# EAGLE library part STM32F373CCT6 (library trafshlib)
Source: Datasheet <http://www.st.com/web/en/resource/technical/document/datasheet/DM00046749.pdf>
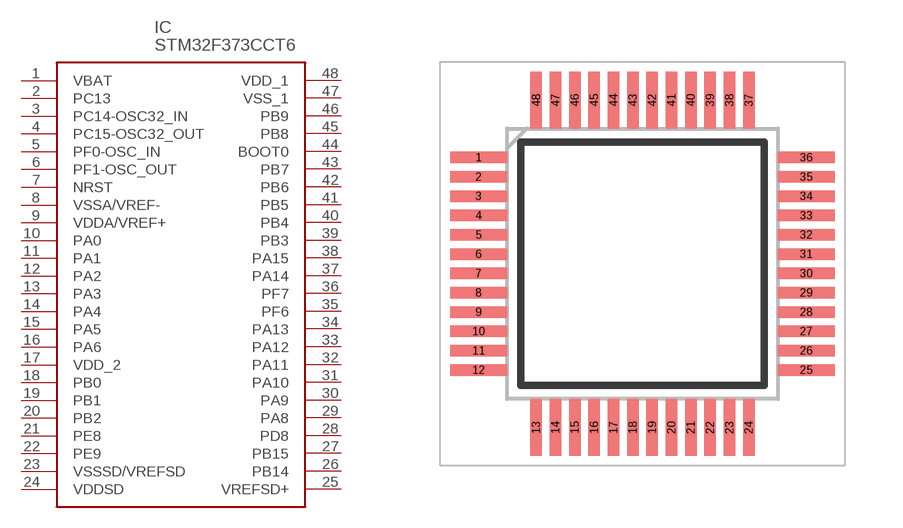
[diagram p12: symbol with the pads of QFP50P900X900X160-48N; footprint QFP50P900X900X160-48N]

Designator prefix IC

## STM32F373CCT6 (ALLIED_NUMBER: 70391084; ALLIED_PRICE-STOCK: http://www.alliedelec.com/stmicroelectronics-stm32f373cct6/70391084/; ARROW_PART_NUMBER: STM32F373CCT6; ARROW_PRICE-STOCK: https://www.arrow.com/en/products/stm32f373cct6/stmicroelectronics; HEIGHT: 1.6mm; MANUFACTURER_NAME: STMicroelectronics; MANUFACTURER_PART_NUMBER: STM32F373CCT6; RS_PART_NUMBER: 9206446; RS_PRICE-STOCK: http://uk.rs-online.com/web/p/products/9206446)  [QFP50P900X900X160-48N]
1  VBAT
2  PC13
3  PC14-OSC32_IN  in
4  PC15-OSC32_OUT  out
5  PF0-OSC_IN  in
6  PF1-OSC_OUT  out
7  NRST  in
8  VSSA/VREF-  pwr
9  VDDA/VREF+  pwr
10  PA0
11  PA1
12  PA2
13  PA3
14  PA4
15  PA5
16  PA6
17  VDD_2  pwr
18  PB0
19  PB1
20  PB2
21  PE8
22  PE9
23  VSSSD/VREFSD  pwr
24  VDDSD  pwr
25  VREFSD+  in
26  PB14
27  PB15
28  PD8
29  PA8
30  PA9
31  PA10
32  PA11
33  PA12
34  PA13
35  PF6
36  PF7
37  PA14
38  PA15
39  PB3
40  PB4
41  PB5
42  PB6
43  PB7
44  BOOT0
45  PB8
46  PB9
47  VSS_1  pwr
48  VDD_1  pwr

## Footprint QFP50P900X900X160-48N (pad centres in mm)
LQFP48
smd 1.475 x 0.3: 1 -4.238,2.75; 2 -4.238,2.25; 3 -4.238,1.75; 4 -4.238,1.25; 5 -4.238,0.75; 6 -4.238,0.25; 7 -4.238,-0.25; 8 -4.238,-0.75; 9 -4.238,-1.25; 10 -4.238,-1.75; 11 -4.238,-2.25; 12 -4.238,-2.75; 25 4.238,-2.75; 26 4.238,-2.25; 27 4.238,-1.75; 28 4.238,-1.25; 29 4.238,-0.75; 30 4.238,-0.25; 31 4.238,0.25; 32 4.238,0.75; 33 4.238,1.25; 34 4.238,1.75; 35 4.238,2.25; 36 4.238,2.75
smd 0.3 x 1.475: 13 -2.75,-4.238; 14 -2.25,-4.238; 15 -1.75,-4.238; 16 -1.25,-4.238; 17 -0.75,-4.238; 18 -0.25,-4.238; 19 0.25,-4.238; 20 0.75,-4.238; 21 1.25,-4.238; 22 1.75,-4.238; 23 2.25,-4.238; 24 2.75,-4.238; 37 2.75,4.238; 38 2.25,4.238; 39 1.75,4.238; 40 1.25,4.238; 41 0.75,4.238; 42 0.25,4.238; 43 -0.25,4.238; 44 -0.75,4.238; 45 -1.25,4.238; 46 -1.75,4.238; 47 -2.25,4.238; 48 -2.75,4.238